# Altium footprint library SMD_IND.PcbLib: 11 footprints
Each footprint in its own frame and in the unit in brackets; x right, y up, seen from the top. Pads: shape width x height; smd on the part's side, far side on the other; paste and mask are expansions set on the pad; w line width, h text height; cw(c..) or ccw(c..) is an arc to the next point about the centre after c.
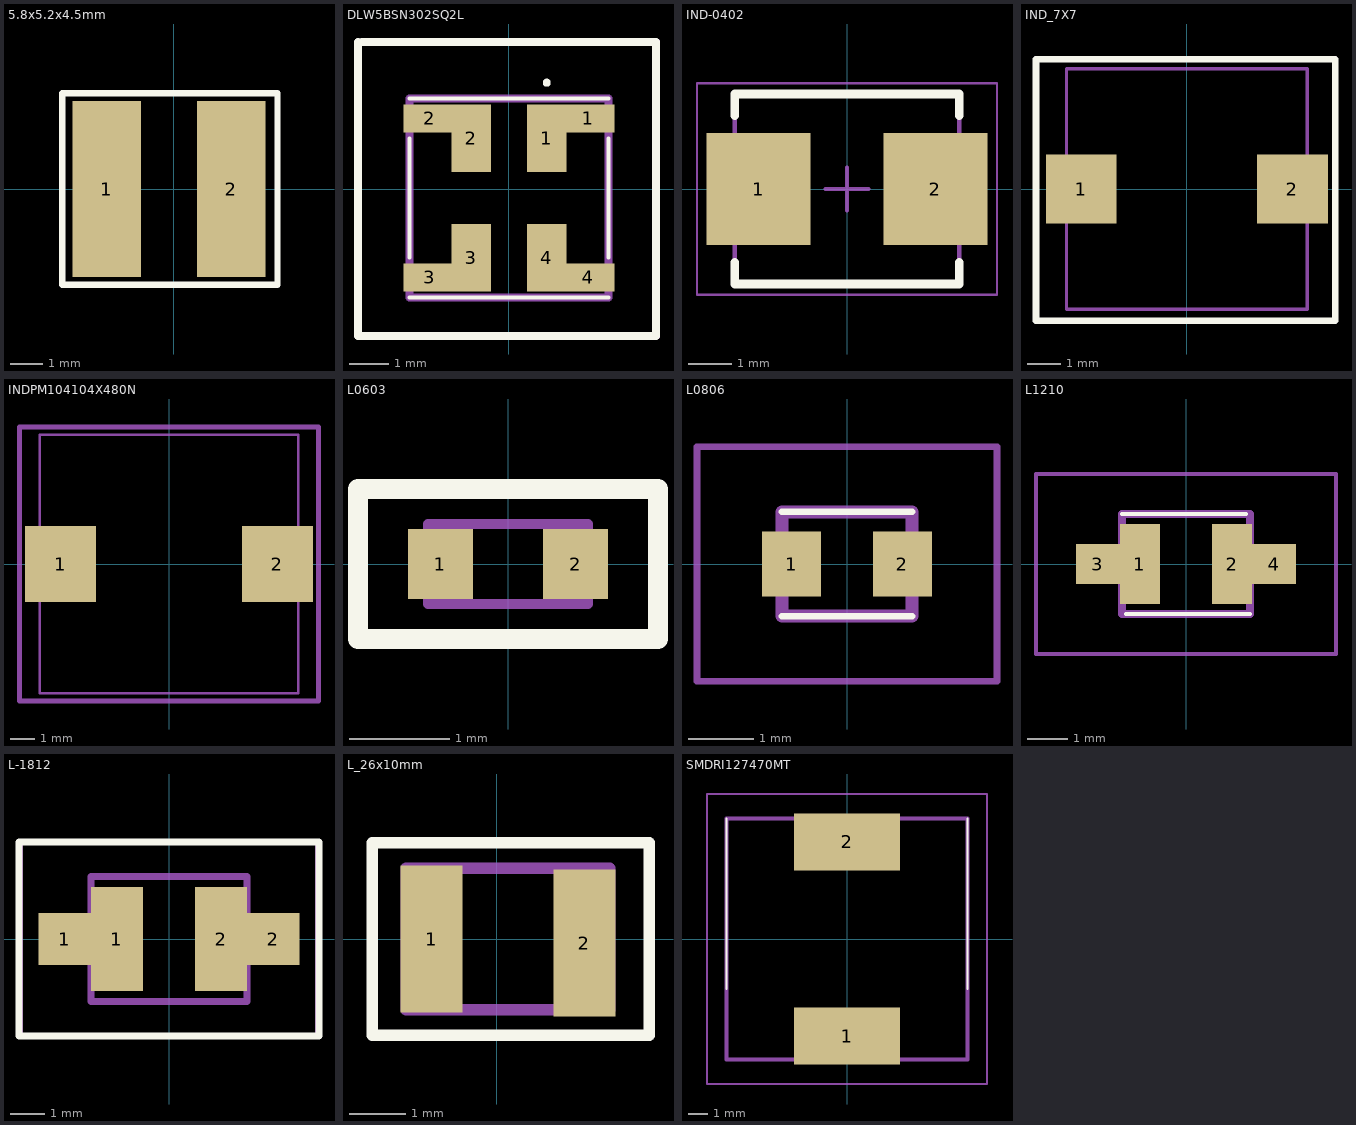
[diagram p0: the footprints below, top view; thin cyan lines are the x and y axes]

## 5.8x5.2x4.5mm [mm]
pads (2):
  rect 2.15x5.5 smd: 1(-2.1,0) 2(1.8,0)
Top Overlay:
  lines w0.2: -3.5,-3 3.25,-3 3.25,3 -3.5,3 -3.5,-3
3D body "User Library-LC75.STEP": height 5, standoff -0.01, extent -4,-3.5 3.736,3.5

## DLW5BSN302SQ2L [mm]
pads (8):
  rect 1x1.7 smd: 1(0.95,1.275) 2(-0.95,1.275) 3(-0.95,-1.725) 4(0.95,-1.725)
  rect 1.3x0.7 smd: 1(2,1.775) 2(-2,1.775) 3(-2,-2.225) 4(2,-2.225)
Top Overlay:
  lines w0.1: -2.5,-2.725 2.5,-2.725 ; -2.5,-1.725 -2.5,1.275 ; -2.5,2.275 2.5,2.275 ; 2.5,-1.725 2.5,1.275 ; 0.9,2.675 ccw(c0.95,2.675) 1,2.675 ccw(c0.95,2.675) 0.9,2.675
  lines w0.2: -3.8,3.7 -3.8,-3.7 3.7,-3.7 3.7,3.7 -3.7,3.7
Mechanical 13:
  lines w0.2: -2.5,-2.725 2.5,-2.725 2.5,2.275 -2.5,2.275 -2.5,-2.725
Mechanical 15:
  lines w0.1: -3.75,-3.725 3.75,-3.725 3.75,3.725 -3.75,3.725 -3.75,-3.725
3D body "DLW5BTM102SQ2L.stp": height 2.45, standoff 0, extent -2.68,-2.725 2.68,2.275

## IND-0402 [mm] "Precision Wire Wound Inductor, 2-Leads, Body 5,20x4,20mm, IPC Medium Density"
height 2
pads (2):
  rect 2.4x2.6 smd: 1(-2.05,0) 2(2.05,0)
Top Overlay:
  lines w0.2: -2.6,-1.7 -2.6,-2.2 2.6,-2.2 2.6,-1.7 ; -2.6,1.7 -2.6,2.2 2.6,2.2 2.6,1.7
Mechanical 13:
  lines w0.1: -2.6,-2.2 2.6,-2.2 2.6,2.2 -2.6,2.2 -2.6,-2.2
Mechanical 15:
  lines w0.05: -3.475,-2.45 3.475,-2.45 3.475,2.45 -3.475,2.45 -3.475,-2.45
  lines w0.1: -0.5,0 0.5,0 ; 0,-0.5 0,0.5
3D body "INDP5242X20N.step": height 2.1, standoff 0, extent -2.7,-2.1 2.7,2.1

## IND_7X7 [mm]
pads (2):
  rect 2.15x2.1 smd: 1(-3.2,0) 2(3.2,0)
Top Overlay:
  lines w0.2: -4.572,-4 4.5,-4 4.5,3.937 -4.572,3.937 -4.572,-4
Mechanical 13:
  lines w0.1: -3.65,-3.65 -3.65,3.65 3.65,3.65 3.65,-3.65 -3.65,-3.65
Mechanical 15:
  lines w0.05: -4.525,-4 -4.525,4 4.525,4 4.525,-4 -4.525,-4
3D body "B82472G6223M000.stp": height 3.65, standoff -0.4, extent -3.65,-3.65 3.65,3.65

## INDPM104104X480N [mm]
pads (2):
  rect 2.85x3.05 smd: 1(-4.35,0) 2(4.35,0)
Mechanical 1:
  lines w0.2: -6,-5.5 -6,5.5 6,5.5 6,-5.5 -6,-5.5
Mechanical 13:
  lines w0.1: -5.2,-5.2 5.2,-5.2 5.2,5.2 -5.2,5.2 -5.2,-5.2
Mechanical 15:
  lines w0.05: -6.025,-5.45 6.025,-5.45 6.025,5.45 -6.025,5.45 -6.025,-5.45
3D body "B82464G4224M000.stp": height 3.6, standoff -1.12, extent -6,-6 6,6

## L0603 [mm]
pads (2):
  rect 0.65x0.7 smd: 1(-0.675,0) 2(0.675,0)
Top Overlay:
  lines w0.2: -1.5,-0.75 1.5,-0.75 1.5,0.75 -1.5,0.75 -1.5,-0.75
Mechanical 13:
  lines w0.1: -0.8,-0.4 0.8,-0.4 0.8,0.4 -0.8,0.4 -0.8,-0.4
Mechanical 15:
  lines w0.05: -1.5,-0.75 1.5,-0.75 1.5,0.75 -1.5,0.75 -1.5,-0.75
3D body "BLM18PG181SN1D.stp": height 0.8, standoff 0, extent -0.8,-0.4 0.8,0.4

## L0806 [mm]
pads (2):
  rect 0.9x1 smd: 1(-0.85,0) 2(0.85,0)
Top Overlay:
  lines w0.1: -1,-0.8 1,-0.8 ; -1,0.8 1,0.8
Mechanical 13:
  lines w0.2: -1,-0.8 1,-0.8 1,0.8 -1,0.8 -1,-0.8
Mechanical 15:
  lines w0.1: -2.3,-1.8 2.3,-1.8 2.3,1.8 -2.3,1.8 -2.3,-1.8
3D body "LQH2MCN470K02L.stp": height 1.05, standoff 0, extent -1.21,-0.8 1.21,0.8

## L1210 [mm]
pads (4):
  rect 1x2 smd: 1(-1.15,0) 2(1.15,0)
  rect 1.1x1 smd: 3(-2.2,0) 4(2.2,0)
Top Overlay:
  lines w0.1: -1.6,1.25 1.5,1.25 ; -1.5,-1.25 1.6,-1.25
Mechanical 13:
  lines w0.2: -1.6,-1.25 1.6,-1.25 1.6,1.25 -1.6,1.25 -1.6,-1.25
Mechanical 15:
  lines w0.1: -3.75,-2.25 3.75,-2.25 3.75,2.25 -3.75,2.25 -3.75,-2.25
3D body "LQH32DN101K53L.stp": height 2.7, standoff 0, extent -1.6,-1.25 1.6,1.25

## L-1812 [mm]
pads (4):
  rect 1.5x1.5 smd: 1(-3,0) 2(3,0)
  rect 1.5x3 smd: 1(-1.5,0) 2(1.5,0)
Top Overlay:
  lines w0.2: -4.318,-2.794 -4.318,2.794 4.318,2.794 4.318,-2.794 -4.318,-2.794
Mechanical 13:
  lines w0.2: -2.25,-1.8 -2.25,1.8 2.25,1.8 2.25,-1.8 -2.25,-1.8
Mechanical 15:
  lines w0.1: -4.25,-2.8 -4.25,2.8 4.25,2.8 4.25,-2.8 -4.25,-2.8
3D body "LQH43MN151K03K.stp": height 2.8, standoff 0, extent -2.25,-1.9 2.25,1.9

## L_26x10mm [mm]
pads (2):
  rect 1.1x2.6 smd: 1(-1.15,0) 2(1.553,-0.072)
Top Overlay:
  lines w0.2: -2.2,-1.7 2.7,-1.7 2.7,1.7 -2.2,1.7 -2.2,-1.7
Mechanical 13:
  lines w0.2: -1.6,-1.25 2,-1.25 2,1.25 -1.6,1.25 -1.6,-1.25
Mechanical 15:
  lines w0.1: -2.2,-1.7 2.7,-1.7 2.7,1.7 -2.2,1.7 -2.2,-1.7
3D body "LQH32DN101K53L.stp": height 2.7, standoff 0, extent -1.346,-1.266 1.854,1.234

## SMDRI127470MT [mm]
pads (2):
  rect 5.4x2.9 smd: 1(0,-4.95) 2(0,4.95)
Top Overlay:
  lines w0.1: -6.15,-2.54 -6.15,6.15 ; 6.15,-2.54 6.15,6.15
Mechanical 13:
  lines w0.2: -6.15,-6.15 -6.15,6.15 6.15,6.15 6.15,-6.15 -6.15,-6.15
Mechanical 15:
  lines w0.1: -7.15,-7.4 -7.15,7.4 7.15,7.4 7.15,-7.4 -7.15,-7.4
3D body "B82464G4224M000.stp": height 3.6, standoff -1.12, extent -8.485,-8.385 8.485,8.585